# Altium footprint library ESC_altimeter_v01.PcbLib: 4 footprints
Each footprint in its own frame and in the unit in brackets; x right, y up, seen from the top. Pads: shape width x height; smd on the part's side, far side on the other; paste and mask are expansions set on the pad; w line width, h text height; cw(c..) or ccw(c..) is an arc to the next point about the centre after c.
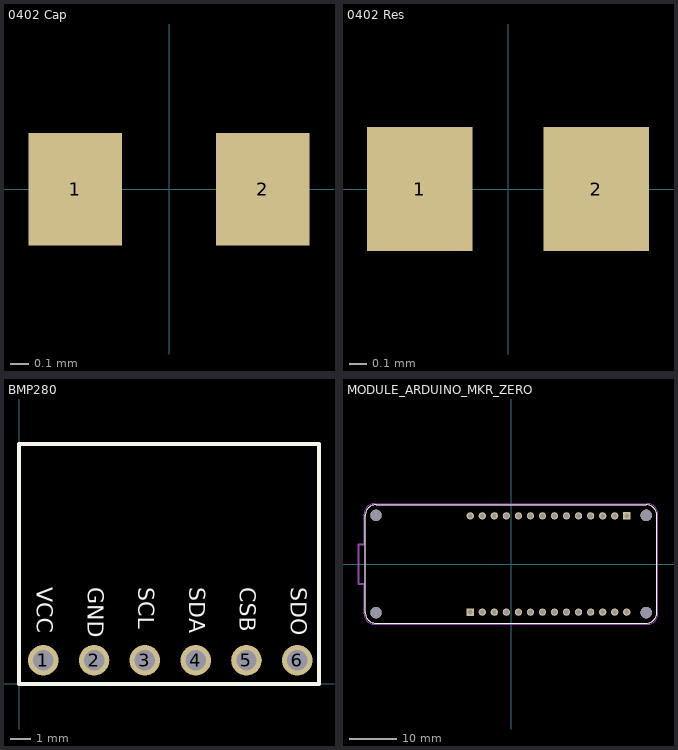
[diagram p0: the footprints below, top view; thin cyan lines are the x and y axes]

## 0402 Cap [mm]
pads (2):
  rect 0.5x0.6 smd: 1(-0.5,0) 2(0.5,0)
3D body "CAPC0402 v2.step": height 0.5, standoff 0, extent -0.5,-0.25 0.5,0.25

## 0402 Res [mm]
pads (2):
  rect 0.6x0.7 smd: 1(-0.5,0) 2(0.5,0)
3D body "RES0402.stp": height 0.3, standoff 0, extent -0.5,-0.25 0.5,0.25

## BMP280 [mm]
pads (6):
  round 1.53 hole 1.02: 1(1.213,1.185) 2(3.753,1.185) 3(6.293,1.185) 4(8.833,1.185) 5(11.373,1.185) 6(13.913,1.185)
Top Overlay:
  lines w0.2: 0,0 15,0 15,12 0,12 0,0
  text "GND" at 3.429,4.826 h0.8
  text "VCC" at 0.889,4.826 h0.8
  text "SCL" at 5.969,4.826 h0.8
  text "SDA" at 8.509,4.826 h0.8
  text "CSB" at 11.049,4.826 h0.8
  text "SDO" at 13.589,4.826 h0.8

## MODULE_ARDUINO_MKR_ZERO [mm]
pads (32):
  rect 1.53x1.53 hole 1.02: J4_1(-8.615,-10.16) J5_1(24.405,10.16)
  round 1.53 hole 1.02: J4_2(-6.075,-10.16) J4_3(-3.535,-10.16) J4_4(-0.995,-10.16) J4_5(1.545,-10.16) J4_6(4.085,-10.16) J4_7(6.625,-10.16) J4_8(9.165,-10.16) J4_9(11.705,-10.16) J4_10(14.245,-10.16) J4_11(16.785,-10.16) J4_12(19.325,-10.16) J4_13(21.865,-10.16) J4_14(24.405,-10.16) J5_2(21.865,10.16) J5_3(19.325,10.16) J5_4(16.785,10.16) J5_5(14.245,10.16) J5_6(11.705,10.16) J5_7(9.165,10.16) J5_8(6.625,10.16) J5_9(4.085,10.16) J5_10(1.545,10.16) J5_11(-0.995,10.16) J5_12(-3.535,10.16) J5_13(-6.075,10.16) J5_14(-8.615,10.16)
  round 2.42 hole 2.42 unplated: ""(-28.5,-10.25) ""(-28.5,10.25) ""(28.5,-10.25) ""(28.5,10.25)
Top Overlay:
  lines w0.127: -30.75,-10.25 ccw(c-28.5,-10.25) -28.5,-12.5 28.5,-12.5 ccw(c28.5,-10.25) 30.75,-10.25 30.75,10.25 ccw(c28.5,10.25) 28.5,12.5 -28.5,12.5 ccw(c-28.5,10.25) -30.75,10.25 -30.75,-10.25
Mechanical 13:
  lines w0.127: -30.75,-4.037 -32.05,-4.037 -32.05,4.037 -30.75,4.037 ; -30.75,-10.25 ccw(c-28.5,-10.25) -28.5,-12.5 28.5,-12.5 ccw(c28.5,-10.25) 30.75,-10.25 30.75,10.25 ccw(c28.5,10.25) 28.5,12.5 -28.5,12.5 ccw(c-28.5,10.25) -30.75,10.25 -30.75,-10.25
Mechanical 15:
  lines w0.05: -32.3,-4.287 -31,-4.287 -31,-10.5 ccw(c-28.75,-10.5) -28.75,-12.75 28.75,-12.75 ccw(c28.75,-10.5) 31,-10.5 31,10.5 ccw(c28.75,10.5) 28.75,12.75 -28.75,12.75 ccw(c-28.75,10.5) -31,10.5 -31,4.287 -32.3,4.287 -32.3,-4.287